# Altium footprint library B3F-3150.PcbLib: 1 footprints
Each footprint in its own frame and in the unit in brackets; x right, y up, seen from the top. Pads: shape width x height; smd on the part's side, far side on the other; paste and mask are expansions set on the pad; w line width, h text height; cw(c..) or ccw(c..) is an arc to the next point about the centre after c.
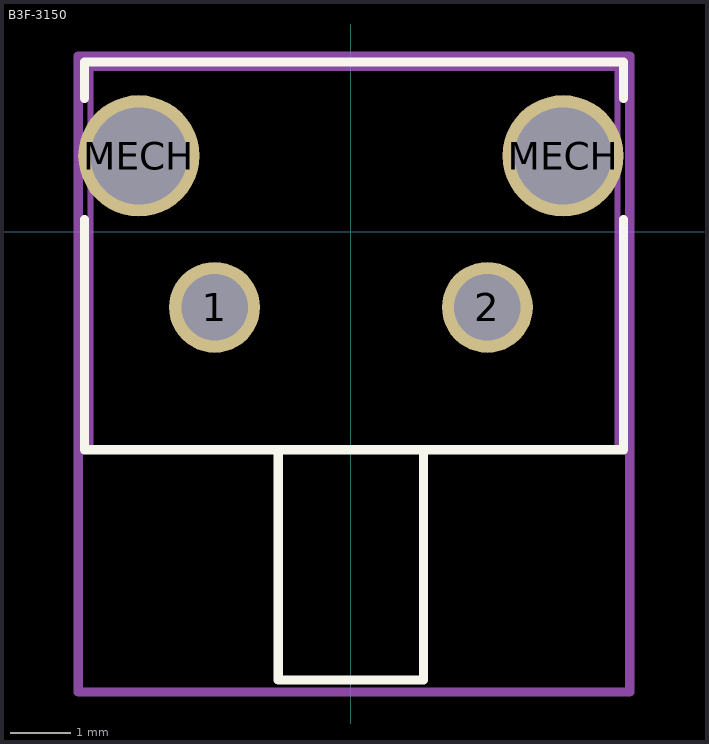
[diagram p0: the footprint, top view; thin cyan lines are the x and y axes]

## B3F-3150 [mm]
pads (4):
  round 1.5 hole 1.1: 1(-2.25,-1.25) 2(2.25,-1.25)
  round 2 hole 1.6: MECH(-3.5,1.25) MECH(3.5,1.25)
Top Overlay:
  lines w0.15: -4.4,0.2 -4.4,-3.6 4.5,-3.6 4.5,0.2 ; -4.4,2.2 -4.4,2.8 4.5,2.8 4.5,2.2 ; -1.2,-3.6 -1.2,-7.4 1.2,-7.4 1.2,-3.6 2.2,-3.6
Top Assembly:
  lines w0.1: -4.3,-3.6 -4.3,2.7 4.4,2.7 4.4,-3.6 1.2,-3.6 1.2,-7.4 -1.2,-7.4 -1.2,-3.6 -4.3,-3.6
  text "'.Designator'" at -2.975,0.8 h0.5
Top Courtyard:
  lines w0.15: -4.5,-7.6 -4.5,2.9 4.6,2.9 4.6,-7.6 -4.5,-7.6
3D body "B3F_3150_wo.STEP": height 7.4, standoff -3.5, extent -4.35,-7.4 4.35,2.75